# Altium schematic symbol library R.SCHLIB: 1 symbol
Pins are listed as number, name and electrical type; pins without a type are passive.

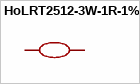
[diagram p0: symbol HoLRT2512-3W-1R-1%]

## HoLRT2512-3W-1R-1%
designator R??, comment 1Ω  (value not drawn)
Manufacturer: Milliohm(毫欧); Symbol: HOLRT2512-3W-1R-1%; Add into BOM: yes; Tolerance: ±1%; Power(Watts): 3W; Temperature Coefficient: ±50ppm/℃; Mounting Sytle: 贴片; Device: HoLRT2512-3W-1R-1%; LCSC Part Name: 1Ω ±1% 3W; Supplier Part: C5127857; Manufacturer Part: HoLRT2512-3W-1R-1%; Supplier Footprint: 2512; JLCPCB Part Class: Extended Part; Datasheet: https://atta.szlcsc.com/upload/public/pdf/source/20220824/2F980B1D038502AFD2CEFA614A55353B.pdf; Supplier: LCSC; Convert to PCB: yes; Type: 采样电阻; Value: 1Ω
footprint R2512
pins: 1, 2